# Altium footprint library Library.PcbLib: 124 footprints (part 8 of 8)
Each footprint in its own frame and in the unit in brackets; x right, y up, seen from the top. Pads: shape width x height; smd on the part's side, far side on the other; paste and mask are expansions set on the pad; w line width, h text height; cw(c..) or ccw(c..) is an arc to the next point about the centre after c.
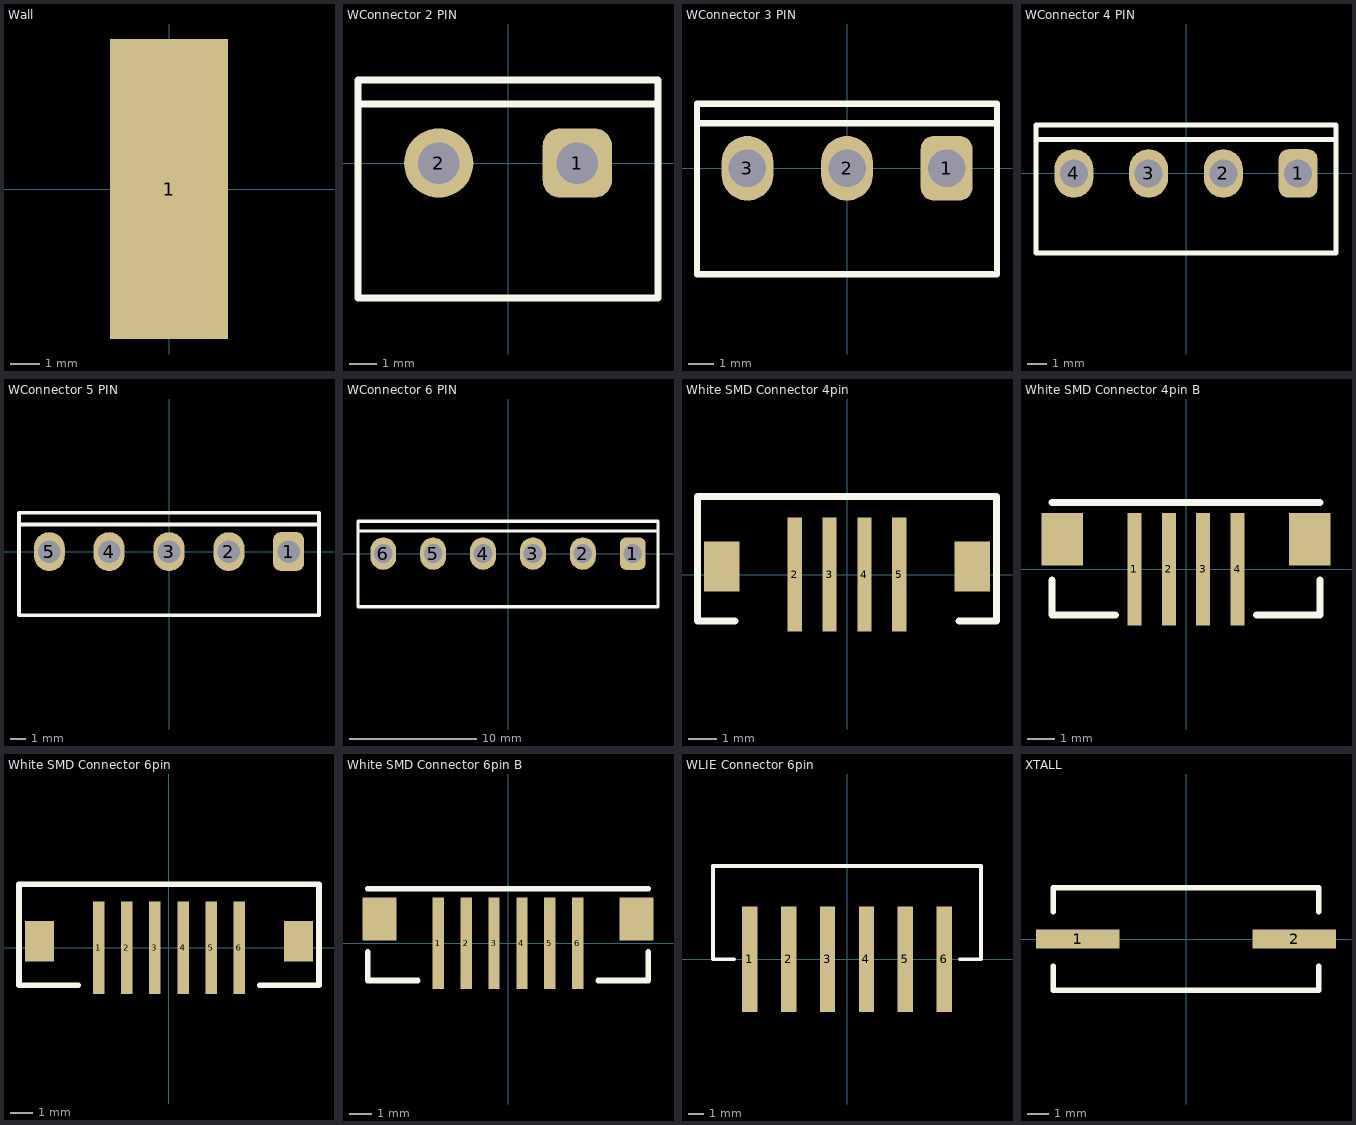
[diagram p7: the footprints below, top view; thin cyan lines are the x and y axes]

## Wall [mm]
pads (1):
  rect 4x10.16 smd: 1(0,0)

## WConnector 2 PIN [mil] "WConnector Terminal 2 Pin"
height 314.96
pads (2):
  rrect50% 100x100 hole 60: 1(100,0)
  round 100 hole 60: 2(-100,0)
Top Overlay:
  lines w10: -216.54,85 216.54,85 ; -216.54,-194.96 -216.54,120 216.54,120 216.54,-194.96 -216.54,-194.96

## WConnector 3 PIN [mil] "WConnector Terminal 3 Pin"
height 314.96
pads (3):
  rrect50% 80x100 hole 58: 1(154,0)
  oval 80x100 hole 58: 2(0,0) 3(-154,0)
Top Overlay:
  lines w10: -230,70 232,70 ; -232,-164 -232,100 232,100 232,-164 -232,-164

## WConnector 4 PIN [mil] "WConnector Terminal 4 Pin"
height 314.96
pads (4):
  rrect50% 80x100 hole 58: 1(231,0)
  oval 80x100 hole 58: 2(77,0) 3(-77,0) 4(-231,0)
Top Overlay:
  lines w10: -309,70 309,70 ; -309,-164 -309,100 309,100 309,-164 -309,-164

## WConnector 5 PIN [mil] "WConnector Terminal 5 Pin"
height 314.96
pads (5):
  rrect50% 80x100 hole 58: 1(308,0)
  oval 80x100 hole 58: 2(154,0) 3(0,0) 4(-154,0) 5(-308,0)
Top Overlay:
  lines w10: -386,70 386,70 ; -386,-164 -386,100 386,100 386,-164 -386,-164

## WConnector 6 PIN [mil] "WConnector Terminal 6 Pin"
height 314.96
pads (6):
  rrect50% 80x100 hole 58: 1(385,0)
  oval 80x100 hole 58: 2(231,0) 3(77,0) 4(-77,0) 5(-231,0) 6(-385,0)
Top Overlay:
  lines w10: -463,70 463,70 ; -463,-164 463,-164 463,100 -463,100 -463,-164

## White SMD Connector 4pin [mil] "White SMD Connector 4pin"
height 393.7
pads (6):
  rect 20x160 smd: 2(-73.23,0) 3(-24.41,0) 4(24.41,0) 5(73.23,0)
  rect 50x70 smd: ""(-175.59,11.42) ""(175.59,11.42)
Top Overlay:
  lines w10: -157.48,-65 -210,-65 -210,110 210,110 210,-65 157.48,-65

## White SMD Connector 4pin B [mm] "White SMD Connector 6pin"
height 10
pads (6):
  rect 0.508x4.064 smd: 1(-1.86,0) 2(-0.62,0) 3(0.62,0) 4(1.86,0)
  rect 1.5x1.9 smd: ""(-4.46,1.082) ""(4.46,1.082)
Top Overlay:
  lines w0.254: -4.826,-0.381 -4.826,-1.651 -2.54,-1.651 ; -4.826,2.413 4.826,2.413 ; 2.54,-1.651 4.826,-1.651 4.826,-0.381

## White SMD Connector 6pin [mil] "White SMD Connector 6pin"
height 393.7
pads (8):
  rect 20x160 smd: 1(-122.05,0) 2(-73.23,0) 3(-24.41,0) 4(24.41,0) 5(73.23,0) 6(122.05,0)
  rect 50x70 smd: ""(-224.41,11.42) ""(224.41,11.42)
Top Overlay:
  lines w10: -157.48,-65 -260,-65 -260,110 260,110 260,-65 157.48,-65

## White SMD Connector 6pin B [mil] "White SMD Connector 6pin"
height 393.7
pads (8):
  rect 20x160 smd: 1(-122.05,0) 2(-73.23,0) 3(-24.41,0) 4(24.41,0) 5(73.23,0) 6(122.05,0)
  rect 59.06x74.8 smd: ""(-224.41,42.6) ""(224.41,42.6)
Top Overlay:
  lines w10: -245,-15 -245,-65 -157.48,-65 ; -245,95 245,95 ; 157.48,-65 245,-65 245,-15

## WLIE Connector 6pin [mm]
pads (6):
  rect 1x6.9 smd: 1(-6.35,0) 2(-3.81,0) 3(-1.27,0) 4(1.27,0) 5(3.81,0) 6(6.35,0)
Top Overlay:
  lines w0.254: -7.366,0 -8.763,0 -8.763,6.096 8.763,6.096 8.763,0 7.366,0

## XTALL [mil]
height 448.82
pads (2):
  rect 153.94x35 smd: 1(-200,0) 2(200,0)
Top Overlay:
  lines w10: -245,-50 -245,-95 245,-95 245,-50 ; -245,50 -245,95 245,95 245,50